# Altium footprint library Components.PcbLib: 13 footprints
Each footprint in its own frame and in the unit in brackets; x right, y up, seen from the top. Pads: shape width x height; smd on the part's side, far side on the other; paste and mask are expansions set on the pad; w line width, h text height; cw(c..) or ccw(c..) is an arc to the next point about the centre after c.
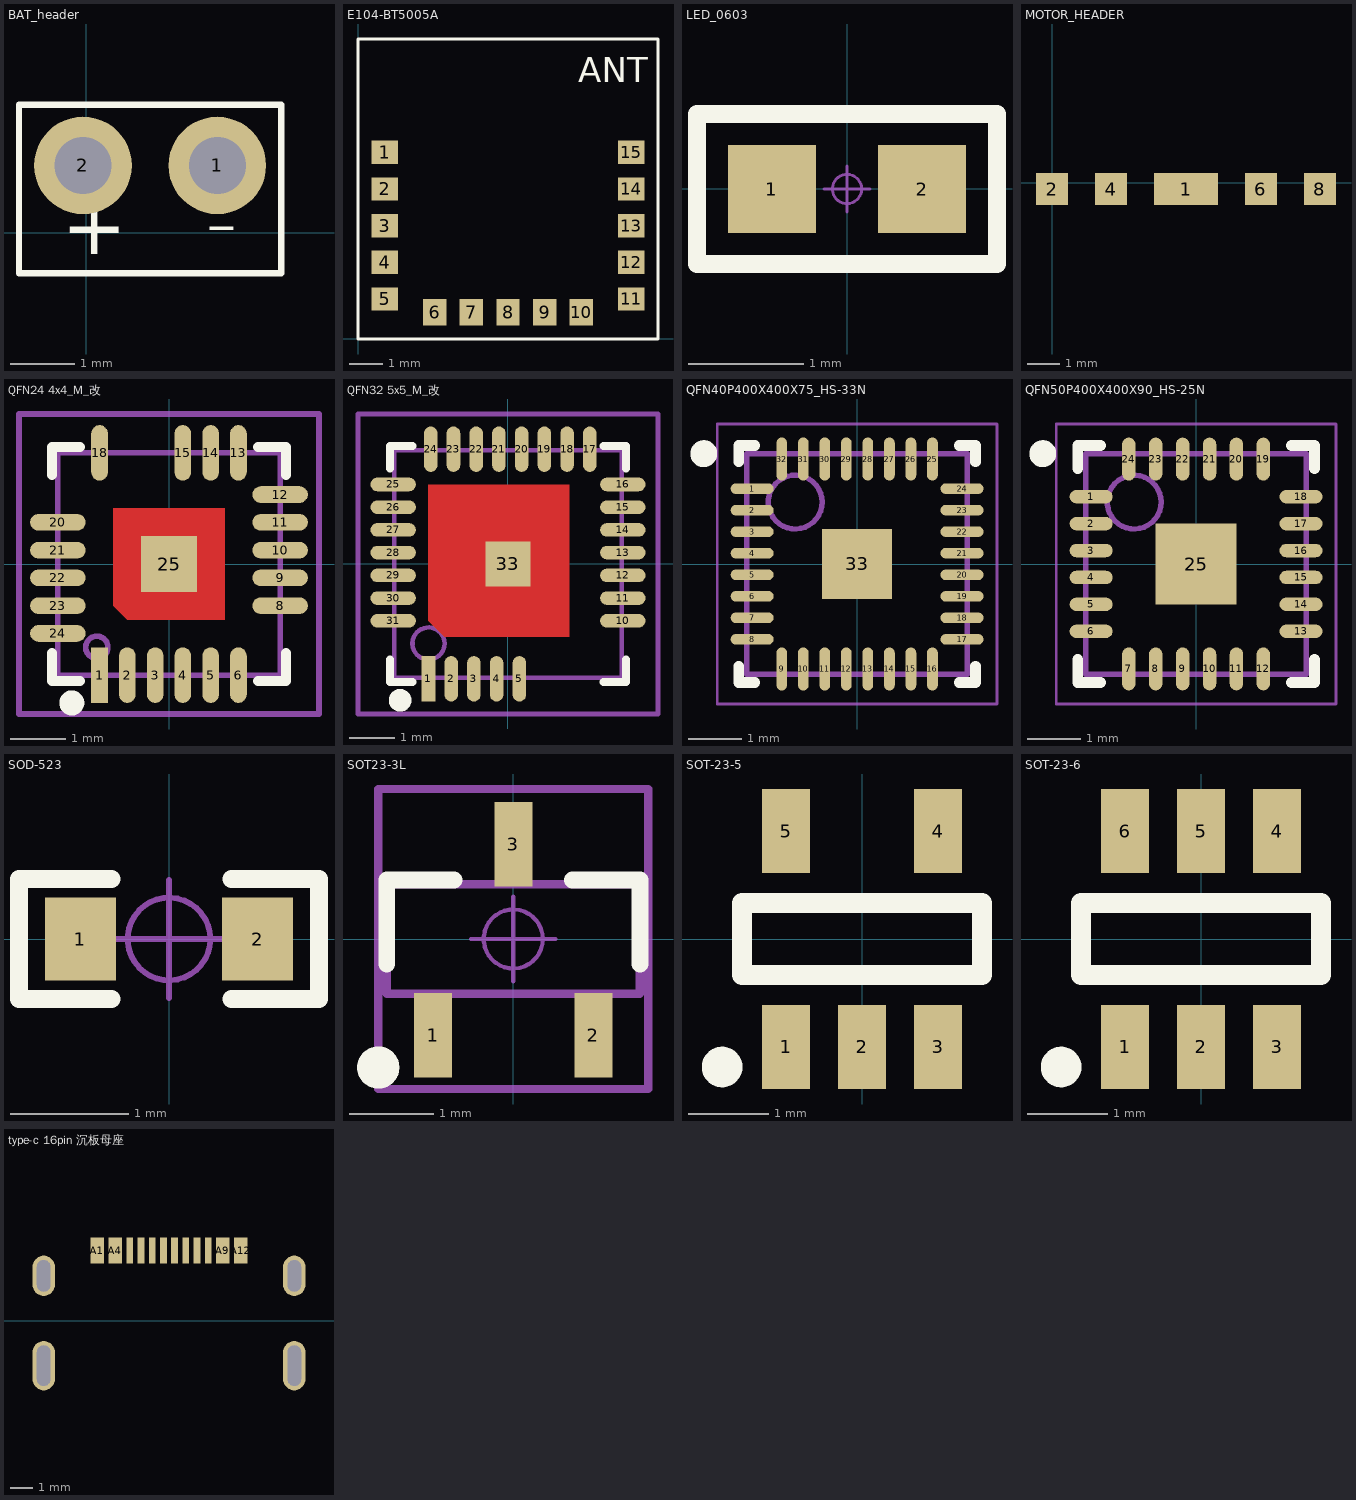
[diagram p0: the footprints below, top view; thin cyan lines are the x and y axes]

## BAT_header [mil]
pads (2):
  round 60 hole 35: 1(80.68,41.34) 2(-1.97,41.34)
Top Overlay:
  lines w3.94: -41.34,-25 5.51,-25 73.23,-25 120.08,-25 120.08,78.74 -41.34,78.74 -41.34,-25
  text "-" at 73.23,-25 h70
  text "+" at -15,-25 h60

## E104-BT5005A [mm]
pads (15):
  rect 0.8x0.7 smd: 1(0.8,5.6) 2(0.8,4.5) 3(0.8,3.4) 4(0.8,2.3) 5(0.8,1.2) 11(8.2,1.2) 12(8.2,2.3) 13(8.2,3.4) 14(8.2,4.5) 15(8.2,5.6)
  rect 0.7x0.8 smd: 6(2.3,0.8) 7(3.4,0.8) 8(4.5,0.8) 9(5.6,0.8) 10(6.7,0.8)
Top Overlay:
  lines w0.1: 0,0 0,9 9,9 9,0 0,0
  text "ANT" at 6.6,7.45 h1.27
3D body: height 2.4, standoff 0, extent 0,0 9,9

## LED_0603 [mil] "1/10W贴片电阻                 淘宝ID:黄晶宝石"
pads (2):
  rect 30x30 smd: 1(-25.59,0) 2(25.59,0)
Top Overlay:
  lines w6: -51.18,-25.59 -51.18,25.59 51.18,25.59 51.18,-25.59 -51.18,-25.59
Mechanical 15:
  circle w1: c0,0 r5
  lines w1: -7.87,0 7.87,0 ; 0,-7.87 0,7.87
3D body "LED 0603-W.STEP": height 18.36, standoff -0.16, extent -31.49,-15.79 31.5,15.79

## MOTOR_HEADER [mm]
pads (5):
  rect 2x1 smd: 1(4.18,-0.2)
  rect 1x1 smd: 2(0,-0.2) 4(1.84,-0.2) 6(6.52,-0.2) 8(8.36,-0.2)

## QFN24 4x4_M_改 [mm] "24脚，长x宽x高：4x4x1mm，脚距：0.5mm"
pads (21):
  rect 0.3x1 smd: 1(-1.25,-2)
  oval 0.3x1 smd: 2(-0.75,-2) 3(-0.25,-2) 4(0.25,-2) 5(0.75,-2) 6(1.25,-2) 13(1.25,2) 14(0.75,2) 15(0.25,2) 18(-1.25,2)
  oval 1x0.3 smd: 8(2,-0.75) 9(2,-0.25) 10(2,0.25) 11(2,0.75) 12(2,1.25) 20(-2,0.75) 21(-2,0.25) 22(-2,-0.25) 23(-2,-0.75) 24(-2,-1.25)
  rect 1x1 smd: 25(0,0)
Top Layer:
  region: -1,1 1,1 1,-1 -0.75,-1 -1,-0.75
Top Overlay:
  circle w0.25: c-1.75,-2.5 r0.1
  lines w0.178: -2.106,-1.6 -2.106,-2.106 -1.6,-2.106 ; -2.106,1.6 -2.106,2.106 -1.6,2.106 ; 1.6,-2.106 2.106,-2.106 2.106,-1.6 ; 1.6,2.106 2.106,2.106 2.106,1.6
Mechanical 13:
  circle w0.1: c-1.3,-1.5 r0.2
  lines w0.1: -2,-2 -2,2 2,2 2,-2 -2,-2
Mechanical 15:
  circle w0.05: c0,0 r0.35
  lines w0.05: -0.5,0 0.5,0 ; 0,-0.5 0,0.5
  lines w0.1: -2.7,-2.7 2.7,-2.7 2.7,2.7 -2.7,2.7 -2.7,-2.7
3D body "QFN24-4X4.STEP": height 0.95, standoff -0.05, extent -2.01,-2.01 2.01,2.01

## QFN32 5x5_M_改 [mm] "32脚，长x宽x高：5x5x0.95mm，脚距：0.5mm"
pads (28):
  rect 0.3x1 smd: 1(-1.751,-2.528)
  oval 0.3x1 smd: 2(-1.25,-2.528) 3(-0.75,-2.528) 4(-0.25,-2.528) 5(0.25,-2.528) 17(1.8,2.528) 18(1.3,2.528) 19(0.8,2.528) 20(0.3,2.528) 21(-0.2,2.528) 22(-0.7,2.528) 23(-1.2,2.528) 24(-1.7,2.528)
  oval 1x0.3 smd: 10(2.528,-1.25) 11(2.528,-0.75) 12(2.528,-0.25) 13(2.528,0.25) 14(2.528,0.75) 15(2.528,1.25) 16(2.528,1.75) 25(-2.528,1.75) 26(-2.528,1.25) 27(-2.528,0.75) 28(-2.528,0.25) 29(-2.528,-0.25) 30(-2.528,-0.75) 31(-2.528,-1.25)
  rect 1x1 smd: 33(0,0)
Top Layer:
  region: -1.75,1.75 1.35,1.75 1.35,-1.6 -1.4,-1.6 -1.75,-1.25
Top Overlay:
  circle w0.25: c-2.375,-3 r0.125
  lines w0.178: -2.6,-2.1 -2.6,-2.6 -2.1,-2.6 ; -2.6,2.1 -2.6,2.6 -2.1,2.6 ; 2.1,-2.6 2.6,-2.6 2.6,-2.1 ; 2.1,2.6 2.6,2.6 2.6,2.1
Mechanical 13:
  circle w0.1: c-1.75,-1.75 r0.354
  lines w0.1: 2.5,-2.501 2.5,2.501 -2.501,2.501 -2.501,-2.501 2.501,-2.501 ; 2.5,-2.501 2.501,-2.501
Mechanical 15:
  circle w0.05: c0,0 r0.35
  lines w0.05: -0.5,0 0.5,0 ; 0,-0.5 0,0.5
  lines w0.1: -3.302,-3.302 -3.302,3.302 3.302,3.302 3.302,-3.302 -3.302,-3.302
3D body "QFN32 5x5.STEP": height 0.93, standoff 0, extent -2.501,-2.501 2.501,2.501

## QFN40P400X400X75_HS-33N [mm] "QFN, 32-Leads, Body 4.00x4.00mm, Pitch 0.40mm, Thermal Pad 2.70x2.70mm, IPC Medium Density"
height 0.75
pads (33):
  oval 0.8x0.2 smd: 1(-1.95,1.4) 2(-1.95,1) 3(-1.95,0.6) 4(-1.95,0.2) 5(-1.95,-0.2) 6(-1.95,-0.6) 7(-1.95,-1) 8(-1.95,-1.4) 17(1.95,-1.4) 18(1.95,-1) 19(1.95,-0.6) 20(1.95,-0.2) 21(1.95,0.2) 22(1.95,0.6) 23(1.95,1) 24(1.95,1.4)
  oval 0.2x0.8 smd: 9(-1.4,-1.95) 10(-1,-1.95) 11(-0.6,-1.95) 12(-0.2,-1.95) 13(0.2,-1.95) 14(0.6,-1.95) 15(1,-1.95) 16(1.4,-1.95) 25(1.4,1.95) 26(1,1.95) 27(0.6,1.95) 28(0.2,1.95) 29(-0.2,1.95) 30(-0.6,1.95) 31(-1,1.95) 32(-1.4,1.95)
  rect 1.3x1.3 smd: 33(0,0)
Top Overlay:
  circle w0.25: c-2.85,2.05 r0.125
  lines w0.2: -2.2,-1.9 -2.2,-2.2 -1.9,-2.2 ; -2.2,1.9 -2.2,2.2 -1.9,2.2 ; 1.9,-2.2 2.2,-2.2 2.2,-1.9 ; 1.9,2.2 2.2,2.2 2.2,1.9
Assembly Top:
  circle w0.1: c-1.15,1.15 r0.5
  lines w0.1: -2.05,-2.05 2.05,-2.05 2.05,2.05 -2.05,2.05 -2.05,-2.05
Courtyard Top:
  lines w0.05: -2.6,-2.6 2.6,-2.6 2.6,2.6 -2.6,2.6 -2.6,-2.6
  lines w0.1: -0.5,0 0.5,0 ; 0,-0.5 0,0.5
3D body: height 0.75, standoff 0.02, extent -2.05,-2.05 2.05,2.05

## QFN50P400X400X90_HS-25N [mm] "QFN, 24-Leads, Body 4.00x4.00mm, Pitch 0.50mm, Thermal Pad 2.60x2.70mm, IPC Medium Density"
height 0.9
pads (25):
  oval 0.8x0.25 smd: 1(-1.95,1.25) 2(-1.95,0.75) 3(-1.95,0.25) 4(-1.95,-0.25) 5(-1.95,-0.75) 6(-1.95,-1.25) 13(1.95,-1.25) 14(1.95,-0.75) 15(1.95,-0.25) 16(1.95,0.25) 17(1.95,0.75) 18(1.95,1.25)
  oval 0.25x0.8 smd: 7(-1.25,-1.95) 8(-0.75,-1.95) 9(-0.25,-1.95) 10(0.25,-1.95) 11(0.75,-1.95) 12(1.25,-1.95) 19(1.25,1.95) 20(0.75,1.95) 21(0.25,1.95) 22(-0.25,1.95) 23(-0.75,1.95) 24(-1.25,1.95)
  rect 1.5x1.5 smd: 25(0,0)
Top Overlay:
  circle w0.25: c-2.85,2.05 r0.125
  lines w0.2: -2.2,-1.775 -2.2,-2.2 -1.775,-2.2 ; -2.2,1.775 -2.2,2.2 -1.775,2.2 ; 1.775,-2.2 2.2,-2.2 2.2,-1.775 ; 1.775,2.2 2.2,2.2 2.2,1.775
Assembly Top:
  circle w0.1: c-1.15,1.15 r0.5
  lines w0.1: -2.05,-2.05 -2.05,2.05 2.05,2.05 2.05,-2.05 -2.05,-2.05
Courtyard Top:
  lines w0.05: -2.6,-2.6 -2.6,2.6 2.6,2.6 2.6,-2.6 -2.6,-2.6
  lines w0.1: -0.5,0 0.5,0 ; 0,-0.5 0,0.5
3D body: height 0.9, standoff 0.02, extent -2.05,-2.05 2.05,2.05

## SOD-523 [mm]
pads (2):
  rect 0.6x0.7 smd: 1(-0.75,0) 2(0.75,0)
Top Overlay:
  lines w0.152: -0.488,-0.508 -1.27,-0.508 -1.27,0.508 -0.488,0.508 ; 0.528,-0.508 1.27,-0.508 1.27,0.508 0.528,0.508
Mechanical 15:
  circle w0.05: c0,0 r0.35
  lines w0.05: -0.5,0 0.5,0 ; 0,-0.5 0,0.5
3D body "SOD-523.STEP": height 0.65, standoff 0.05, extent -0.8,-0.4 0.8,0.4

## SOT23-3L [mm] "3x1.3x1mm(长宽高)    封装库来自淘宝卖家 ID：黄晶宝石"
height 1.1
pads (3):
  rect 0.45x1 smd: 1(-0.95,-1.143) 2(0.95,-1.143) 3(0,1.125)
Top Overlay:
  circle w0.25: c-1.6,-1.524 r0.125
  lines w0.2: -1.5,-0.3 -1.5,0.7 -0.7,0.7 ; 0.7,0.7 1.5,0.7 1.5,-0.3
Mechanical 13:
  lines w0.1: -1.5,-0.65 1.5,-0.65 1.5,0.65 -1.5,0.65 -1.5,-0.65
Mechanical 15:
  circle w0.05: c0,0 r0.35
  lines w0.05: -0.5,0 0.5,0 ; 0,-0.5 0,0.5
  lines w0.1: -1.6,-1.778 1.6,-1.778 1.6,1.778 -1.6,1.778 -1.6,-1.778
3D body "SOT23-3.STEP": height 1.05, standoff 0, extent -1.5,-1.2 1.5,1.2

## SOT-23-5 [mm] "SOT-23-5"
height 1.2
pads (5):
  rect 0.6x1.05 smd: 1(-0.95,-1.35) 2(0,-1.35) 3(0.95,-1.35) 4(0.95,1.35) 5(-0.95,1.35)
Top Overlay:
  circle w0.254: c-1.75,-1.6 r0.127
  lines w0.254: -1.5,-0.45 1.5,-0.45 1.5,0.45 -1.5,0.45 -1.5,-0.45
3D body "SOT23-5.STEP": height 1.15, standoff -0.03, extent -1.5,-1.403 1.5,1.403

## SOT-23-6 [mm] "SOT-23-6"
height 1.2
pads (6):
  rect 0.6x1.05 smd: 1(-0.95,-1.35) 2(0,-1.35) 3(0.95,-1.35) 4(0.95,1.35) 5(0,1.35) 6(-0.95,1.35)
Top Overlay:
  circle w0.254: c-1.75,-1.6 r0.127
  lines w0.254: -1.5,-0.45 -1.5,0.45 1.5,0.45 1.5,-0.45 -1.5,-0.45
3D body "SOT23-6.STEP": height 1.15, standoff -0.03, extent -1.5,-1.4 1.5,1.407

## type-c 16pin 沉板母座 [mm]
pads (16):
  rect 0.6x1.15 smd: A1(5.375,3.125) A4(6.175,3.125) A9(10.975,3.125) A12(11.775,3.125)
  rect 0.3x1.15 smd: A5(7.325,3.125) A6(8.325,3.125) A7(8.825,3.125) A8(9.825,3.125) B5(10.325,3.125) B6(9.325,3.125) B7(7.825,3.125) B8(6.825,3.125)
  oval 1x2.2 hole 1.8 slot 0.6 at 0 deg: ""(3,-2) ""(14.15,-2)
  oval 1x1.8 hole 1.4 slot 0.6 at 0 deg: ""(3,2) ""(14.15,2)
3D body: height 1, standoff -1, extent 4.4,-4.1 12.75,2.55